# Altium schematic symbol library SCH - CONNECTOR - Samtec FTR-110-03-G-D-06.Schlib: 1 symbol
Pins are listed as number, name and electrical type; pins without a type are passive.

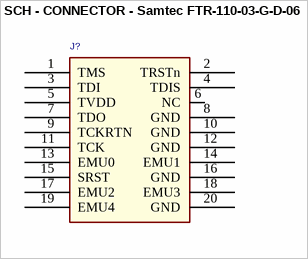
[diagram p0: symbol SCH - CONNECTOR - Samtec FTR-110-03-G-D-06]

## SCH - CONNECTOR - Samtec FTR-110-03-G-D-06
designator J?
footprint HEADER10X2_SMD
pins: 1 TMS, 2 TRSTn, 3 TDI, 4 TDIS, 5 TVDD, 6 NC, 7 TDO, 8 GND (power), 9 TCKRTN, 10 GND (power), 11 TCK, 12 GND (power), 13 EMU0, 14 EMU1, 15 SRST, 16 GND (power), 17 EMU2, 18 EMU3, 19 EMU4, 20 GND (power)